# EAGLE library part 6861XX188622_686108188622 (library 68611414422)
WR-FPC 1.00 mm SMT LIF Horizontal Top Contact KIND PROPERTIES Pitch 1 mm MATERIAL PROPERTIES Insulator Material LCP Contact Material Phosphor Bronze Contact Plating 2.032µm Tin over 1.27µm Nickel Contact Type Stamped Solder Tabs Brass <https://www.we-online.com/catalog/media/o162362v209%20Family_ConFPC_686118188622.jpg> Details see: https://www.we-online.com/catalog/en/em/FPC_1_00_SMT_LIF_HORIZONTAL_TOP_CONTACT_6861xx188622 Updated by Ella Wu 2020-08-26 2020(C) Wurth Elektronik
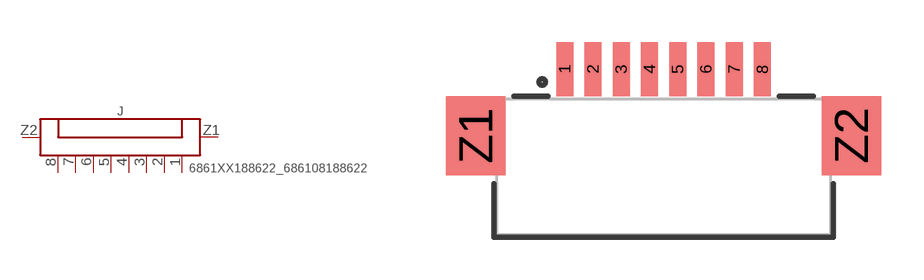
[diagram p142: symbol with the pads of 686108188622; footprint 686108188622]

Designator prefix J

## 6861XX188622_686108188622 (CONTACT-RESISTANCE: 30mOhm; DATASHEET-URL: https://www.we-online.com/catalog/datasheet/686108188622.pdf; IR: 1A; L: 11.8mm; PACKAGING: Tape and Reel; PART-NUMBER: 686108188622; PINS: 8; PITCH: 1mm; TYPE: Horizontal; VALUE: 686108188622; WORKING-VOLTAGE: 125V(AC))  [686108188622]
1  1  pas
2  2  pas
3  3  pas
4  4  pas
5  5  pas
6  6  pas
7  7  pas
8  8  pas
Z1  Z1  pas
Z2  Z2  pas

## Footprint 686108188622 (pad centres in mm)
WR-FPC 1.00 mm SMT LIF Horizontal Top Contact,8 Pins
smd 0.6 x 1.9: 1 -3.5,2.95; 2 -2.5,2.95; 3 -1.5,2.95; 4 -0.5,2.95; 5 0.5,2.95; 6 1.5,2.95; 7 2.5,2.95; 8 3.5,2.95
smd 2.1 x 2.8: Z1 -6.65,0.6; Z2 6.65,0.6